# Altium schematic symbol library ScienceComponents.SchLib: 12 symbols
Pins are listed as number, name and electrical type; pins without a type are passive.

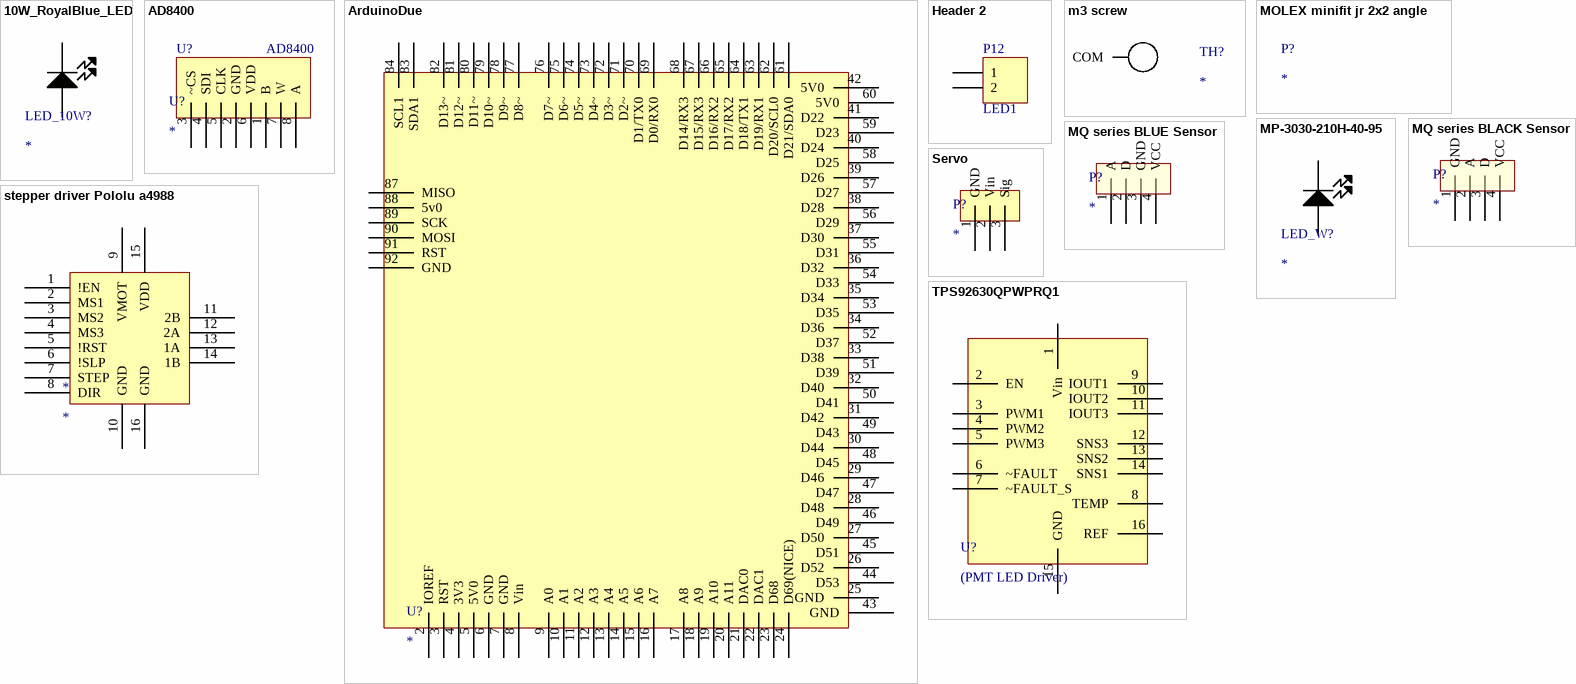
[diagram p0: symbols 10W_RoyalBlue_LED to TPS92630QPWPRQ1]

## 10W_RoyalBlue_LED
designator LED_10W?
445nm LED
footprint 10W_LED_200200
pins: 1 -, 2 +

## AD8400
designator U?
footprint AD8400(SOIC8) (SOIC, 8-Leads, Body 4.90x3.90mm, Pitch 1.27mm, IPC Low Density)
pins: 1 B, 2 GND, 3 ~CS, 4 SDI, 5 CLK, 6 VDD, 7 W, 8 A

## ArduinoDue
designator U?
footprint Arduino Due (Arduino Due Ghost Footprint)
pins: 2 IOREF, 3 RST, 4 3V3, 5 5V0, 6 GND, 7 GND, 8 Vin, 9 A0, 10 A1, 11 A2, 12 A3, 13 A4, 14 A5, 15 A6, 16 A7, 17 A8, 18 A9, 19 A10, 20 A11, 21 DAC0, 22 DAC1, 23 D68, 24 D69(NICE), 25 GND, 26 D52, 27 D50, 28 D48, 29 D46, 30 D44, 31 D42, 32 D40, 33 D38, 34 D36, 35 D34, 36 D32, 37 D30, 38 D28, 39 D26, 40 D24, 41 D22, 42 5V0, 43 GND, 44 D53, 45 D51, 46 D49, 47 D47, 48 D45, 49 D43, 50 D41, 51 D39, 52 D37, 53 D35, 54 D33, 55 D31, 56 D29, 57 D27, 58 D25, 59 D23, 60 5V0, 61 D21/SDA0, 62 D20/SCL0, 63 D19/RX1, 64 D18/TX1, 65 D17/RX2, 66 D16/RX2, 67 D15/RX3, 68 D14/RX3, 69 D0/RX0, 70 D1/TX0, 71 D2~, 72 D3~, 73 D4~, 74 D5~, 75 D6~, 76 D7~, 77 D8~, 78 D9~, 79 D10~, 80 D11~, 81 D12~, 82 D13~, 83 SDA1, 84 SCL1, 87 MISO, 88 5v0, 89 SCK, 90 MOSI, 91 RST, 92 GND

## Header 2
designator P12, comment LED1
Header, 2-Pin; LatestRevisionDate: 17-Jul-2002; LatestRevisionNote: Re-released for DXP Platform.; Publisher: Altium Limited
footprint HDR1X2 (Connector; Header; 2 Position)
signal-integrity model Connector
pins: 1, 2

## m3 screw
designator TH?
footprint m3screw
pins: 0 COM

## MOLEX minifit jr 2x2 angle
designator P?
footprint MOLEX minifit jr 2x2 angle

## MP-3030-210H-40-95
designator LED_W?
White 4000K neutral 1.5W 95CRI SMT3030 LED 6V 150mA
footprint MP-3030-210H-40-95 (3030SMT LED)
pins: 1 -, 2 +

## MQ series BLACK Sensor
designator P?
pins: 1 GND, 2 A, 3 D, 4 VCC

## MQ series BLUE Sensor
designator P?
footprint MQ series BLUE sensor
pins: 1 A, 2 D, 3 GND, 4 VCC

## Servo
designator P?
footprint Header3
pins: 1 GND, 2 Vin, 3 Sig

## stepper driver Pololu a4988
designator *
footprint Stepper Driver Pololu A4988
pins: 1 !EN, 2 MS1, 3 MS2, 4 MS3, 5 !RST, 6 !SLP, 7 STEP, 8 DIR, 9 VMOT, 10 GND, 11 2B, 12 2A, 13 1A, 14 1B, 15 VDD, 16 GND

## TPS92630QPWPRQ1
designator U?, comment (PMT LED Driver)
footprint HTSSOP16
pins: 1 Vin, 2 EN, 3 PWM1, 4 PWM2, 5 PWM3, 6 ~FAULT, 7 ~FAULT_S, 8 TEMP, 9 IOUT1, 10 IOUT2, 11 IOUT3, 12 SNS3, 13 SNS2, 14 SNS1, 15 GND, 16 REF